# Altium footprint library Pheonix_Header_5X2_pin.PcbLib: 1 footprints
Each footprint in its own frame and in the unit in brackets; x right, y up, seen from the top. Pads: shape width x height; smd on the part's side, far side on the other; paste and mask are expansions set on the pad; w line width, h text height; cw(c..) or ccw(c..) is an arc to the next point about the centre after c.
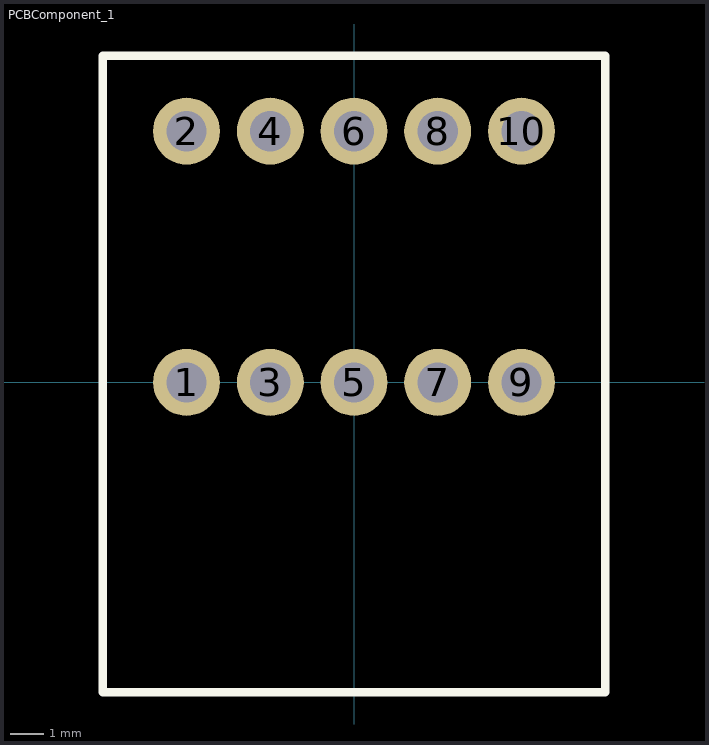
[diagram p0: the footprint, top view; thin cyan lines are the x and y axes]

## PCBComponent_1 [mm]
pads (10):
  round 2 hole 1.2: 1(-5,0) 2(-5,7.5) 3(-2.5,0) 4(-2.5,7.5) 5(0,0) 6(0,7.5) 7(2.5,0) 8(2.5,7.5) 9(5,0) 10(5,7.5)
Top Overlay:
  lines w0.254: -7.5,-9.25 7.5,-9.25 7.5,9.75 -7.5,9.75 -7.5,-9.25